# Altium integrated library TI Power Management Switching Regulator Charge Pump (Inductorless).IntLib: 239 symbols (part 14 of 14)
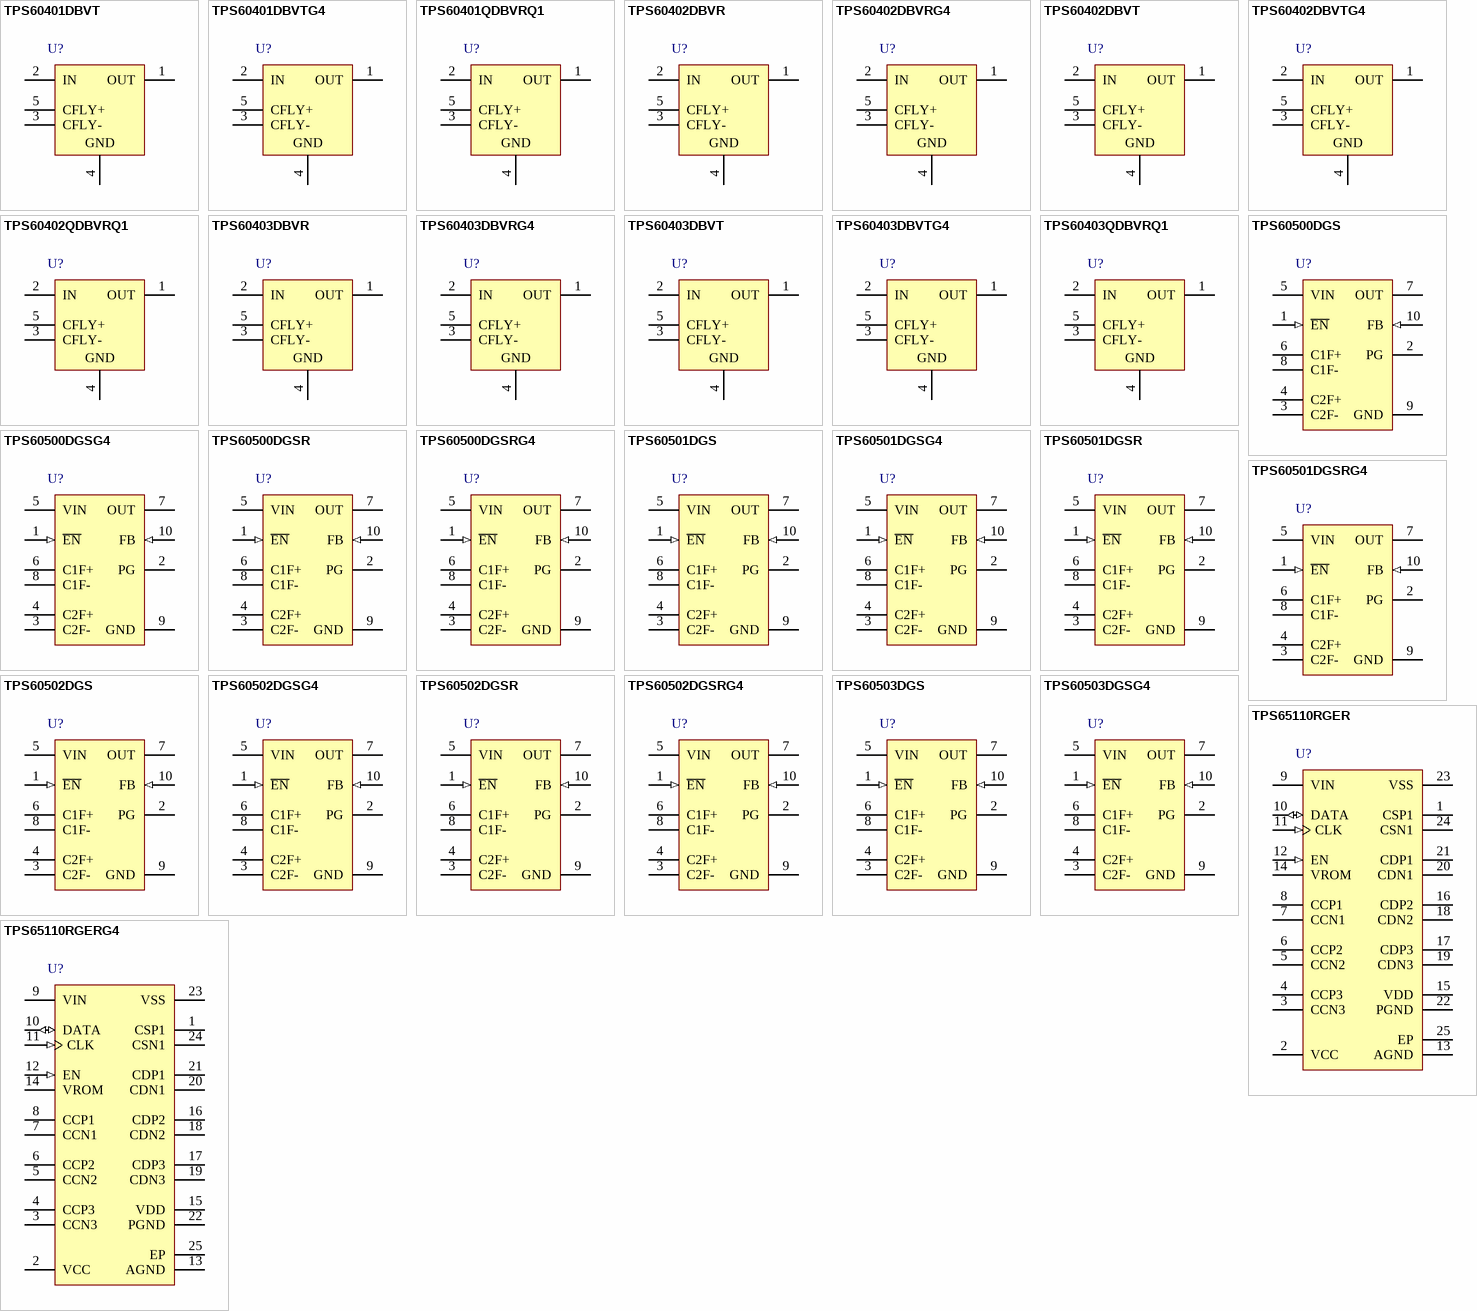
[diagram p20: symbols TPS60401DBVT to TPS65110RGERG4]

## TPS65110RGER
designator U?
5 V, Boost Charge Pump, 2.4 to 5.5 V Input, -40 to 85 degC, 24-pin QFN (RGE24); Manufacturer: Texas Instruments; PartNumber: TPS65110RGER; Efficiency(Typ)(%): 85; Iq(Typ)(mA): 0.05; Preset Vout(V): 5; Switching Frequency(Max)(kHz): 520; Vin(Max)(V): 5.5; Vin(Min)(V): 2.4; DatasheetVersion: SLVS495; PackageVersion: 4204104/G; PackageReference: RGE24-2450X2450TP; PackageDescription: 24-Pin Plastic Flat Pack, Body 4 x 4 mm, 0.5 mm Pitch; Supplier 1: Digi-Key; Supplier Part Number 1: 296-15841-2-ND; Supplier 2: Digi-Key; Supplier Part Number 2: 296-15841-1-ND; Supplier 3: Digi-Key; Supplier Part Number 3: 296-15841-6-ND; Supplier 4: Mouser; Supplier Part Number 4: 595-TPS65110RGER; Topology: Boost; Vout(Max)(V): 5; Vout(Min)(V): 5; Mounting Technology: Surface Mount; Code_JEDEC: MO-220; ComponentLink1Description: Manufacturer URL; ComponentLink1URL: http://www.ti.com/; ComponentLink2Description: Datasheet; ComponentLink2URL: http://www.ti.com/general/docs/lit/getliterature.tsp?genericPartNumber=TPS65110&fileType=pdf; ComponentLink3Description: Package Specification; ComponentLink3URL: http://www.ti.com/litv/pdf/mpqf124f
footprint TI-RGE24-2450X2450TP_V (QFN, 24-Leads, Body 4x4mm, Pitch 0.5mm, Thermal Pad 2.45x2.45mm)
pins: 1 CSP1 "VSS Positive terminal for CS.", 2 VCC (power) "VCC Charge pump output.", 3 CCN3 "VCC Negative terminal for CC3.", 4 CCP3 "VCC Positive terminal for CC3.", 5 CCN2 "VCC Negative terminal for CC2.", 6 CCP2 "VCC Positive terminal for CC2.", 7 CCN1 "VCC Negative terminal for CC1.", 8 CCP1 "VCC Positive terminal for CC1.", 9 VIN (power) "Input supply voltage.", 10 DATA (io) "I2C serial data input.", 11 CLK (in) "I2C serial clock input.", 12 EN (in) "Power on/off enable logic input (H : active / L : shutdown).", 13 AGND (power) "Analog GND.", 14 VROM (power) "EEPROM power supply.", 15 VDD (power) "VDD Charge pump output.", 16 CDP2 "VDD Positive terminal for CD2.", 17 CDP3 "VDD Positive terminal for CD3.", 18 CDN2 "VDD Negative terminal for CD2.", 19 CDN3 "VDD Negative terminal for CD3.", 20 CDN1 "VDD Negative terminal for CD1.", 21 CDP1 "VDD Positive terminal for CD1.", 22 PGND (power) "Power GND.", 23 VSS (power) "VSS Charge pump output.", 24 CSN1 "VSS Negative terminal for CS.", 25 EP "Exposed thermal pad."

## TPS65110RGERG4
designator U?
5 V, Boost Charge Pump, 2.4 to 5.5 V Input, -40 to 85 degC, 24-pin QFN (RGE24); Manufacturer: Texas Instruments; PartNumber: TPS65110RGERG4; Efficiency(Typ)(%): 85; Iq(Typ)(mA): 0.05; Preset Vout(V): 5; Switching Frequency(Max)(kHz): 520; Vin(Max)(V): 5.5; Vin(Min)(V): 2.4; DatasheetVersion: SLVS495; PackageVersion: 4204104/G; PackageReference: RGE24-2450X2450TP; PackageDescription: 24-Pin Plastic Flat Pack, Body 4 x 4 mm, 0.5 mm Pitch; Supplier 1: Digi-Key; Supplier Part Number 1: TPS65110RGERG4-ND; Supplier 2: Newark; Supplier Part Number 2: 24K6052; Supplier 3: Mouser; Supplier Part Number 3: 595-TPS65110RGERG4; Topology: Boost; Vout(Max)(V): 5; Vout(Min)(V): 5; Mounting Technology: Surface Mount; Code_JEDEC: MO-220; ComponentLink1Description: Manufacturer URL; ComponentLink1URL: http://www.ti.com/; ComponentLink2Description: Datasheet; ComponentLink2URL: http://www.ti.com/general/docs/lit/getliterature.tsp?genericPartNumber=TPS65110&fileType=pdf; ComponentLink3Description: Package Specification; ComponentLink3URL: http://www.ti.com/litv/pdf/mpqf124f
footprint TI-RGE24-2450X2450TP_V (QFN, 24-Leads, Body 4x4mm, Pitch 0.5mm, Thermal Pad 2.45x2.45mm)
pins: 1 CSP1 "VSS Positive terminal for CS.", 2 VCC (power) "VCC Charge pump output.", 3 CCN3 "VCC Negative terminal for CC3.", 4 CCP3 "VCC Positive terminal for CC3.", 5 CCN2 "VCC Negative terminal for CC2.", 6 CCP2 "VCC Positive terminal for CC2.", 7 CCN1 "VCC Negative terminal for CC1.", 8 CCP1 "VCC Positive terminal for CC1.", 9 VIN (power) "Input supply voltage.", 10 DATA (io) "I2C serial data input.", 11 CLK (in) "I2C serial clock input.", 12 EN (in) "Power on/off enable logic input (H : active / L : shutdown).", 13 AGND (power) "Analog GND.", 14 VROM (power) "EEPROM power supply.", 15 VDD (power) "VDD Charge pump output.", 16 CDP2 "VDD Positive terminal for CD2.", 17 CDP3 "VDD Positive terminal for CD3.", 18 CDN2 "VDD Negative terminal for CD2.", 19 CDN3 "VDD Negative terminal for CD3.", 20 CDN1 "VDD Negative terminal for CD1.", 21 CDP1 "VDD Positive terminal for CD1.", 22 PGND (power) "Power GND.", 23 VSS (power) "VSS Charge pump output.", 24 CSN1 "VSS Negative terminal for CS.", 25 EP "Exposed thermal pad."